# Altium integrated library LCD1602.IntLib: 1 symbol
Pins are listed as number, name and electrical type; pins without a type are passive.

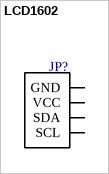
[diagram p0: symbol LCD1602]

## LCD1602
designator JP?  (value not drawn)
/ BLUE LCD 1602 2x16 Character Mat /; MF: kamami; SnapEDA_Link: https://www.snapeda.com/parts/LCD1602/Kaga/view-part/?ref=snap; Package: None; MP: LCD1602; Check_prices: https://www.snapeda.com/parts/LCD1602/Kaga/view-part/?ref=eda; Value: *
footprint *XH_4PIN_LCD1602(Primary)
pins: P$1 GND (io), P$2 VCC (io), P$3 SDA (io), P$4 SCL (io)